# EAGLE library part MSP430F11X1---DGV20 (library MSP430F1xxx)
MSP430C1101IDW 1KB ROM/128B RAM MSP430C1111IDW 2KB ROM/128B RAM MSP430C1121IDW 4KB ROM/256B RAM MSP430F1101AIDW 1KB + 128B FlashMemory/128B RAM MSP430F1111AIDW 2KB + 256B FlashMemory/128B RAM MSP430F1121AIDW 4KB + 256B FlashMemory/256B RAM Package TVSOP-20(DGV20)
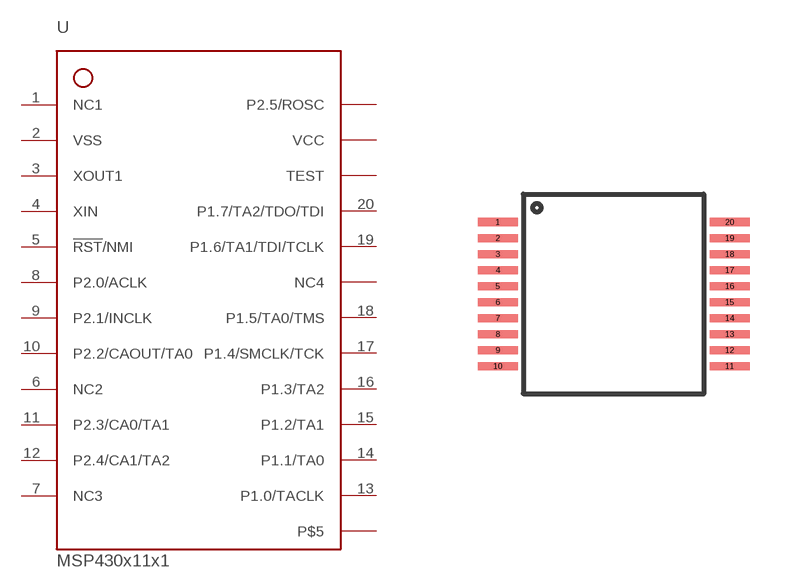
[diagram p4: symbol with the pads of DGV20; footprint DGV20]

Designator prefix -

## MSP430F11X1---DGV20  [DGV20]
1  NC1  nc
2  VSS  pwr
3  XOUT1  out
4  XIN  in
5  !RST!/NMI  in
6  NC2  nc
7  NC3  nc
8  P2.0/ACLK
9  P2.1/INCLK
10  P2.2/CAOUT/TA0
11  P2.3/CA0/TA1
12  P2.4/CA1/TA2
13  P1.0/TACLK
14  P1.1/TA0
15  P1.2/TA1
16  P1.3/TA2
17  P1.4/SMCLK/TCK
18  P1.5/TA0/TMS
19  P1.6/TA1/TDI/TCLK
20  P1.7/TA2/TDO/TDI

## Footprint DGV20 (pad centres in mm)
DGV20
smd 1 x 0.2: 1 -2.9,1.8; 2 -2.9,1.4; 3 -2.9,1; 4 -2.9,0.6; 5 -2.9,0.2; 6 -2.9,-0.2; 7 -2.9,-0.6; 8 -2.9,-1; 9 -2.9,-1.4; 10 -2.9,-1.8; 11 2.9,-1.8; 12 2.9,-1.4; 13 2.9,-1; 14 2.9,-0.6; 15 2.9,-0.2; 16 2.9,0.2; 17 2.9,0.6; 18 2.9,1; 19 2.9,1.4; 20 2.9,1.8